# EAGLE library part NRF24-MODULE (library (custom)-new-components)
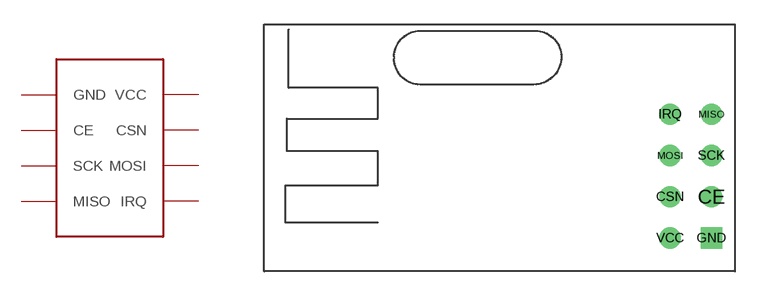
[diagram p3: symbol with the pads of NRF24-MODULE; footprint NRF24-MODULE]

Designator prefix -

## NRF24-MODULE  [NRF24-MODULE]
CE  CE
CSN  CSN
GND  GND
IRQ  IRQ
MISO  MISO
MOSI  MOSI
SCK  SCK
VCC  VCC

## Footprint NRF24-MODULE (pad centres in mm)
drill 0.8: CE 2.54,-3.81; CSN 0,-3.81; IRQ 0,1.27; MISO 2.54,1.27; MOSI 0,-1.27; SCK 2.54,-1.27; VCC 0,-6.35
drill 0.8 square: GND 2.54,-6.35